# EAGLE library part 218-12 (library switch-dil)
DIP SWITCH
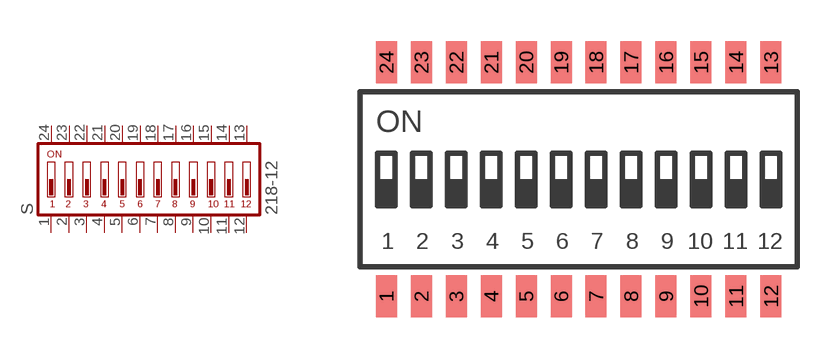
[diagram p69: symbol with the pads of 218-12; footprint 218-12]

Designator prefix S

## 218-12  [218-12]
1  1  pas
2  2  pas
3  3  pas
4  4  pas
5  5  pas
6  6  pas
7  7  pas
8  8  pas
9  9  pas
10  10  pas
11  11  pas
12  12  pas
13  13  pas
14  14  pas
15  15  pas
16  16  pas
17  17  pas
18  18  pas
19  19  pas
20  20  pas
21  21  pas
22  22  pas
23  23  pas
24  24  pas

## Footprint 218-12 (pad centres in mm)
CTS SERIES 218LP - Gull Wing Terminal
smd 0.762 x 1.524: 1 -6.985,-4.245; 2 -5.715,-4.245; 3 -4.445,-4.245; 4 -3.175,-4.245; 5 -1.905,-4.245; 6 -0.635,-4.245; 7 0.635,-4.245; 8 1.905,-4.245; 9 3.175,-4.245; 10 4.445,-4.245; 11 5.715,-4.245; 12 6.985,-4.245; 13 6.985,4.245; 14 5.715,4.245; 15 4.445,4.245; 16 3.175,4.245; 17 1.905,4.245; 18 0.635,4.245; 19 -0.635,4.245; 20 -1.905,4.245; 21 -3.175,4.245; 22 -4.445,4.245; 23 -5.715,4.245; 24 -6.985,4.245